# EAGLE library part AP1509 (library BeagleBone_Blue)
150KHz, 2A PWM BUCK DC/DC CONVERTER
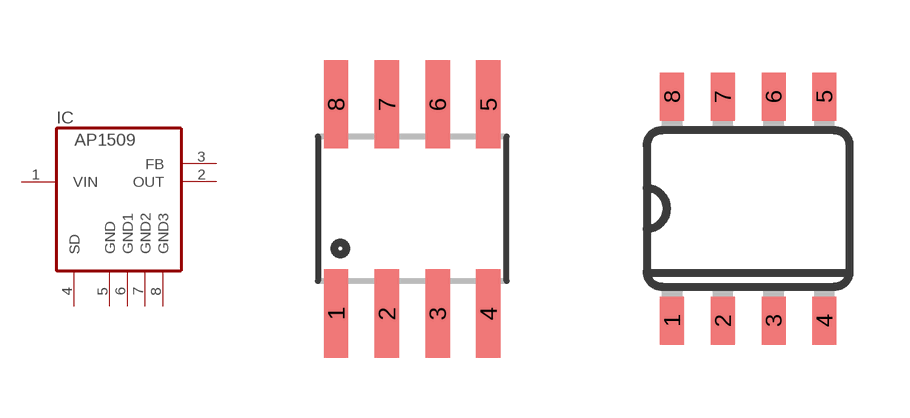
[diagram p0: symbol with the pads of BEAGLEBONE_BLUE_SO08; footprints BEAGLEBONE_BLUE_SO08, BEAGLEBONE_BLUE_SO08-TIGHT]

Designator prefix IC

## AP1509 (OC_FARNELL: unknown; OC_NEWARK: unknown)  [BEAGLEBONE_BLUE_SO08]
1  VIN  in
2  OUT  pwr
3  FB  pwr
4  SD  in
5  GND  pwr
6  GND1  in
7  GND2  pas
8  GND3  pwr

## AP1509SOIC-8-TIGHT  [BEAGLEBONE_BLUE_SO08-TIGHT]
Pads as for BEAGLEBONE_BLUE_SO08

## Footprint BEAGLEBONE_BLUE_SO08 (pad centres in mm)
Small Outline Package Fits JEDEC packages (narrow SOIC-8)
smd 0.61 x 2.21: 1 -1.905,-2.616; 2 -0.635,-2.616; 3 0.635,-2.616; 4 1.905,-2.616; 5 1.905,2.616; 6 0.635,2.616; 7 -0.635,2.616; 8 -1.905,2.616

## Footprint BEAGLEBONE_BLUE_SO08-TIGHT (pad centres in mm)
smd 0.6 x 1.2: 1 -1.905,-2.8; 2 -0.635,-2.8; 3 0.635,-2.8; 4 1.905,-2.8; 5 1.905,2.8; 6 0.635,2.8; 7 -0.635,2.8; 8 -1.905,2.8